# Altium footprint library AXIAL_DIO_0.2.PcbLib: 1 footprints
Each footprint in its own frame and in the unit in brackets; x right, y up, seen from the top. Pads: shape width x height; smd on the part's side, far side on the other; paste and mask are expansions set on the pad; w line width, h text height; cw(c..) or ccw(c..) is an arc to the next point about the centre after c.
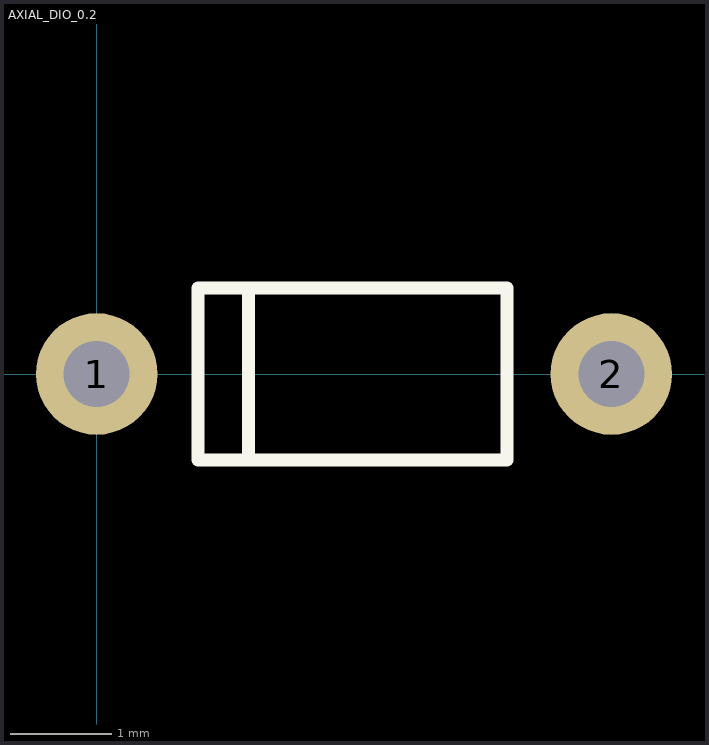
[diagram p0: the footprint, top view; thin cyan lines are the x and y axes]

## AXIAL_DIO_0.2 [mm] "Axial Diode 0.2\" lead spacing"
pads (2):
  round 1.2 hole 0.65: 1(0,0) 2(5.08,0)
Top Overlay:
  lines w0.127: 1.5,-0.85 1.5,0.85 ; 1,-0.85 1,0.85 4.05,0.85 4.05,-0.85 1,-0.85
3D body "AXIAL_DIO_0.2.SLDPRT": height 1.9, standoff -2.5, extent -0.239,-0.9 5.34,0.9